# Altium schematic symbol library UCC27517.SchLib: 1 symbol
Pins are listed as number, name and electrical type; pins without a type are passive.

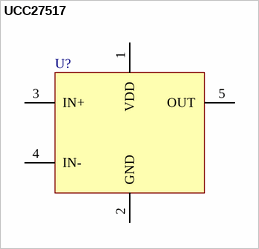
[diagram p0: symbol UCC27517]

## UCC27517
designator U?
pins: 1 VDD, 2 GND, 3 IN+, 4 IN-, 5 OUT